# EAGLE library part DPDT_SWITCH_SMALL (library v15)
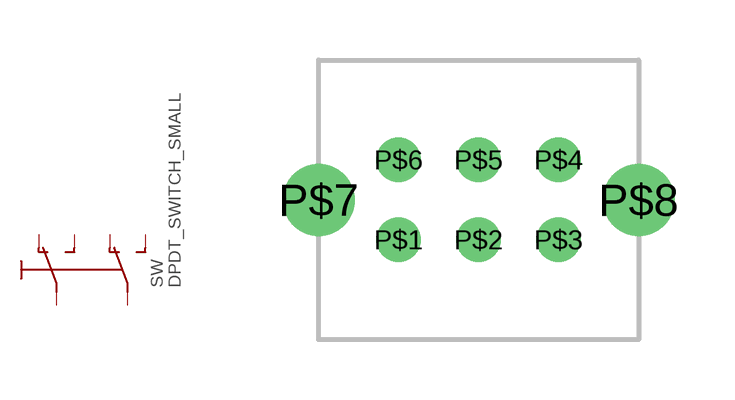
[diagram p5: symbol with the pads of DPDT_SMALL; footprint DPDT_SMALL]

Designator prefix SW

## DPDT_SWITCH_SMALL  [DPDT_SMALL]
P$1  NC1  pas
P$2  I1  pas
P$3  NO1  pas
P$4  NO2  pas
P$5  I2  pas
P$6  NC2  pas

## Footprint DPDT_SMALL (pad centres in mm)
drill 0.6: P$1 0,0; P$2 2,0; P$3 4,0; P$4 4,2; P$5 2,2; P$6 0,2
drill 1.2: P$7 -2,1; P$8 6,1